# EAGLE library part TPA2008D2 (library mike-temp)
3W STEREO CLASS-D AUDIO POWER AMPLIFIER WITH DC VOLUME CONTROL · 3 W Per Channel into 3-W Speakers (THD+N = 10%) · less than 0.045% THD at 1.5 W, 1 kHz, 3-W Load · DC Volume Control With 2-dB Steps From -38 dB to 20 dB · Filter Free Modulation Scheme Operates Without a Large and Expensive LC Output Filter · Extremely Efficient Third Generation 5-V Class-D Technology - Low Supply Current, 7 mA - Low Shutdown Control, 1 ?A - Low Noise Floor, -80 dBV - Maximum Efficiency into 3 Ohm, 78% - Maximum Efficiency into 8 Ohm, 88% - PSRR, -70 dB · Integrated Depop Circuitry · Operating Temperature Range, -40°C to 85°C · Space-Saving, Surface Mount PowerPAD? Package The TPA2008D2 is a third generation 5-V class-D amplifier from Texas Instruments. Improvements to previous generation devices include: dc volume control, lower supply current, lower noise floor, higher efficiency, smaller packaging, and fewer external components. Most notably, a new filter-free class-D modulation technique allows the TPA2008D2 to directly drive the speakers, without needing a low-pass output filter consisting of two inductors and three capacitors per channel. Eliminating this output filter saves approximately 30% in system cost and 75% in PCB area. The improvements and functionality make this device ideal for LCD projectors, LCD monitors, powered speakers, and other applications that demand more battery life, reduced board space, and functionality that surpasses currently available class-D devices. A chip-level shutdown control limits total supply current to 1 ?A, making the device ideal for battery-powered applications. Protection circuitry increases device reliability: thermal and short circuit. Undervoltage shutdown saves battery power for more essential devices when battery voltage drops to low levels.
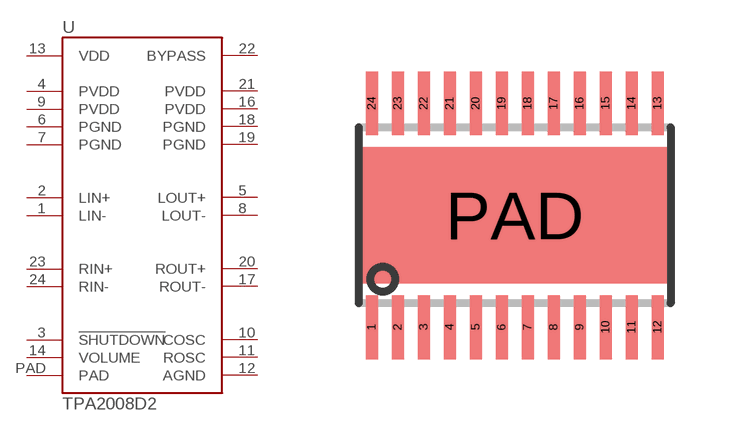
[diagram p14: symbol with the pads of TSSOP-POWERPAD-24; footprint TSSOP-POWERPAD-24]

Designator prefix U

## TPA2008D2  [TSSOP-POWERPAD-24]
1  LIN-  in
2  LIN+  in
3  !SHUTDOWN  in
4  PVDD  pwr
5  LOUT+  out
6  PGND  pwr
7  PGND  pwr
8  LOUT-  out
9  PVDD  pwr
10  COSC  pas
11  ROSC  pas
12  AGND  pwr
13  VDD  pwr
14  VOLUME  in
16  PVDD  pwr
17  ROUT-  out
18  PGND  pwr
19  PGND  pwr
20  ROUT+  out
21  PVDD  pwr
22  BYPASS  pas
23  RIN+  in
24  RIN-  in
PAD  PAD  pwr

## Footprint TSSOP-POWERPAD-24 (pad centres in mm)
smd 0.3 x 1.6: 1 -3.575,-2.8; 2 -2.925,-2.8; 3 -2.275,-2.8; 4 -1.625,-2.8; 5 -0.975,-2.8; 6 -0.325,-2.8; 7 0.325,-2.8; 8 0.975,-2.8; 9 1.625,-2.8; 10 2.275,-2.8; 11 2.925,-2.8; 12 3.575,-2.8; 13 3.575,2.8; 14 2.925,2.8; 15 2.275,2.8; 16 1.625,2.8; 17 0.975,2.8; 18 0.325,2.8; 19 -0.325,2.8; 20 -0.975,2.8; 21 -1.625,2.8; 22 -2.275,2.8; 23 -2.925,2.8; 24 -3.575,2.8
smd 7.8 x 3.4: PAD 0,0